# Altium schematic symbol library IC Driver.SchLib: 20 symbols
Pins are listed as number, name and electrical type; pins without a type are passive.

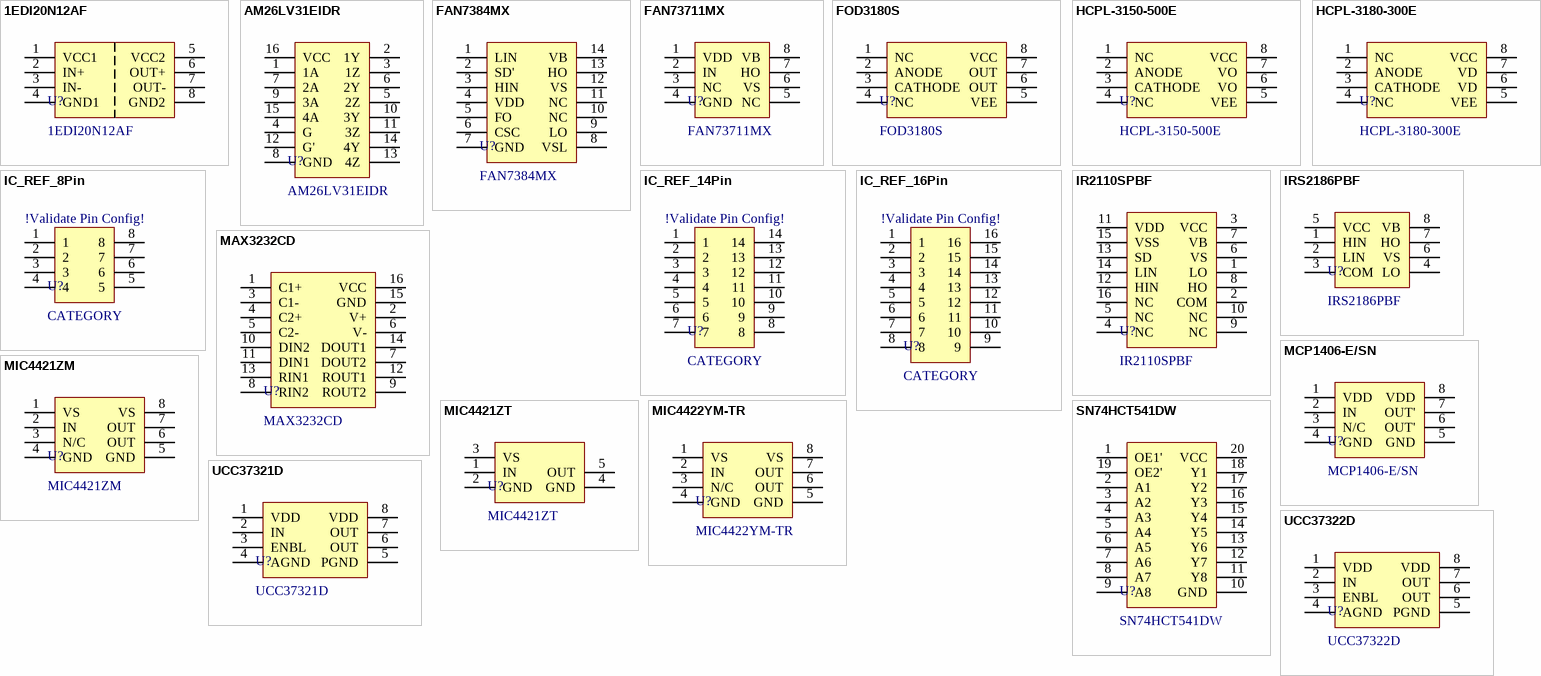
[diagram p0: symbols 1EDI20N12AF to UCC37322D]

## 1EDI20N12AF
designator U?
Isolate FET Driver, single channel, differential input, dual output; Manufacturer: Infineon; Distributor: Mouser; DistributorReference: 726-1EDI20N12AF; InventoryNumber: *; PackageReference: 8-SOIC; ManufacturerReference: 1EDI20N12AF
footprint SOIC-8 INFINEON (PG-DSO-8-51) (SOIC, 8-Leads, Body 4.90x3.90mm, Pitch 1.27mm, IPC High Density)
pins: 1 VCC1, 2 IN+, 3 IN-, 4 GND1, 5 VCC2, 6 OUT+, 7 OUT-, 8 GND2

## AM26LV31EIDR
designator U?
4/0 Driver RS422, RS485 16-SOIC; Manufacturer: Texas Instruments; InventoryNumber: IC108; Distributor: Digikey; DistributorReference: 296-24690-1-ND; PackageReference: 16-SOIC-3.9mmWidth; ManufacturerReference: AM26LV31EIDR
footprint 16 SOIC Texas Instruments (SOIC, 16-Leads, Body 9.90x3.90mm, Pitch 1.27mm, IPC High Density)
pins: 1 1A, 2 1Y, 3 1Z, 4 G, 5 2Z, 6 2Y, 7 2A, 8 GND, 9 3A, 10 3Y, 11 3Z, 12 G', 13 4Z, 14 4Y, 15 4A, 16 VCC

## FAN7384MX
designator U?
Half-Bridge Gate Driver IC Non-Inverting 14-SOIC; Manufacturer: ON Semiconductor; InventoryNumber: IC103; Distributor: Digikey; DistributorReference: FAN7384MXCT-ND; PackageReference: 14-SOIC-3.9mmWidth; ManufacturerReference: FAN7384MX
footprint 14-SOIC ON Semiconductor (SOIC, 14-Leads, Body 8.56x3.98mm, Pitch 1.27mm, IPC High Density)
pins: 1 LIN, 2 SD', 3 HIN, 4 VDD, 5 FO, 6 CSC, 7 GND, 8 VSL, 9 LO, 10 NC, 11 NC, 12 VS, 13 HO, 14 VB

## FAN73711MX
designator U?
High-Side Gate Driver IC Non-Inverting 8-SOIC; Manufacturer: ON Semiconductor; InventoryNumber: IC114; Distributor: Digikey; DistributorReference: FAN73711MXCT-ND; PackageReference: 8SOIC-3.9mmWidth; ManufacturerReference: FAN73711MX
footprint 8-SOIC (SOIC, 8-Leads, Body 4.90x3.90mm, Pitch 1.27mm, IPC High Density)
pins: 1 VDD, 2 IN, 3 NC, 4 GND, 5 NC, 6 VS, 7 HO, 8 VB

## FOD3180S
designator U?
2.5A Gate Driver Optical Coupling 5000Vrms 1 Channel 8-SMD; Manufacturer: ON Semiconductor; InventoryNumber: IC115; Distributor: Digikey; DistributorReference: FOD3180S-ND; PackageReference: 8-SMD, Gull Wing-6.6mmWidth; ManufacturerReference: FOD3180S
footprint 8-SMD, Gull Wing-6.6mmWidth ON Semiconductor (6.6mmWidth ON Semiconductor)
pins: 1 NC, 2 ANODE, 3 CATHODE, 4 NC, 5 VEE, 6 OUT, 7 OUT, 8 VCC

## HCPL-3150-500E
designator U?
600mA Gate Driver Optical Coupling 3750Vrms 1 Channel 8-DIP Gull Wing; Manufacturer: Broadcom Limited; InventoryNumber: IC111; Distributor: Digikey; DistributorReference: 516-1584-1-ND; PackageReference: 8-DIP Gull Wing; ManufacturerReference: HCPL-3150-500E
footprint 8-SMD, Gull Wing-6.6mmWidth ON Semiconductor (6.6mmWidth ON Semiconductor)
pins: 1 NC, 2 ANODE, 3 CATHODE, 4 NC, 5 VEE, 6 VO, 7 VO, 8 VCC

## HCPL-3180-300E
designator U?
2.5A Gate Driver Optical Coupling 3750Vrms 1 Channel 8-DIP Gull Wing; Manufacturer: Broadcom Limited; InventoryNumber: IC112; Distributor: Digikey; DistributorReference: 516-1675-5-ND; PackageReference: 8-DIP Gull Wing-6.6mmWidth; ManufacturerReference: HCPL-3180-300E
footprint 8-SMD, Gull Wing-6.6mmWidth ON Semiconductor (6.6mmWidth ON Semiconductor)
pins: 1 NC, 2 ANODE, 3 CATHODE, 4 NC, 5 VEE, 6 VD, 7 VD, 8 VCC

## IC_REF_8Pin
designator U?, comment CATEGORY
Distributor: Digikey; DistributorReference: *; InventoryNumber: *; PackageReference: *; ManufacturerReference: *; Manufacturer: *
pins: 1, 2, 3, 4, 5, 6, 7, 8
text: !Validate Pin Config!

## IC_REF_14Pin
designator U?, comment CATEGORY
Distributor: Digikey; DistributorReference: *; InventoryNumber: *; PackageReference: *; ManufacturerReference: *; Manufacturer: *
pins: 1, 2, 3, 4, 5, 6, 7, 8, 9, 10, 11, 12, 13, 14
text: !Validate Pin Config!

## IC_REF_16Pin
designator U?, comment CATEGORY
Distributor: Digikey; DistributorReference: *; InventoryNumber: *; PackageReference: *; ManufacturerReference: *; Manufacturer: *
pins: 1, 2, 3, 4, 5, 6, 7, 8, 9, 10, 11, 12, 13, 14, 15, 16
text: !Validate Pin Config!

## IR2110SPBF
designator U?
Half-Bridge Gate Driver IC Non-Inverting 16-SOIC; Manufacturer: Infineon Technologies; InventoryNumber: IC109; Distributor: Digikey; DistributorReference: IR2110SPBF-ND; PackageReference: 16-SOIC-7.5mmWidth; ManufacturerReference: IR2110SPBF
footprint 16SOIC-7.5mmWidth Infineon Technologies (SOIC, 16-Leads, Body 10.30x7.50mm, Pitch 1.27mm, IPC High Density)
pins: 1 LO, 2 COM, 3 VCC, 4 NC, 5 NC, 6 VS, 7 VB, 8 HO, 9 NC, 10 NC, 11 VDD, 12 HIN, 13 SD, 14 LIN, 15 VSS, 16 NC

## IRS2186PBF
designator U?
Half-Bridge Gate Driver IC Non-Inverting 8-DIP; Manufacturer: Infineon Technologies; InventoryNumber: IC113; Distributor: Digikey; DistributorReference: IRS2186PBF-ND; PackageReference: 8DIP-7.62mmWidth; ManufacturerReference: IRS2186PBF
footprint 8-DIP-7.62mmWidth Infineon Technologies (7.62mmWidth Infineon Technologies)
pins: 1 HIN, 2 LIN, 3 COM, 4 LO, 5 VCC, 6 VS, 7 HO, 8 VB

## MAX3232CD
designator U?
2/2 Transceiver Full RS232 16-SOIC; Manufacturer: Texas Instruments; InventoryNumber: IC116; Distributor: Digikey; DistributorReference: 296-23110-5-ND; PackageReference: 16SOIC-3.9mmWidth; ManufacturerReference: MAX3232CD
footprint 16 SOIC Texas Instruments (SOIC, 16-Leads, Body 9.90x3.90mm, Pitch 1.27mm, IPC High Density)
pins: 1 C1+, 2 V+, 3 C1-, 4 C2+, 5 C2-, 6 V-, 7 DOUT2, 8 RIN2, 9 ROUT2, 10 DIN2, 11 DIN1, 12 ROUT1, 13 RIN1, 14 DOUT1, 15 GND, 16 VCC

## MCP1406-E/SN
designator U?
Low-Side Gate Driver IC Inverting 8-SOIC; Manufacturer: Microchip Technology; InventoryNumber: IC102; Distributor: Digikey; DistributorReference: MCP1406-E/SN-ND; PackageReference: 8SOIC-3.9mmWidth; ManufacturerReference: MCP1406-E/SN
footprint 8-SOIC (SOIC, 8-Leads, Body 4.90x3.90mm, Pitch 1.27mm, IPC High Density)
pins: 1 VDD, 2 IN, 3 N/C, 4 GND, 5 GND, 6 OUT', 7 OUT', 8 VDD

## MIC4421ZM
designator U?
Low-Side Gate Driver IC Inverting 8-SOIC; Manufacturer: Microchip Technology; InventoryNumber: IC104; Distributor: Digikey; DistributorReference: 576-1792-5-ND; PackageReference: 8SOIC-3.9mmWidth; ManufacturerReference: MIC4421ZM
footprint 8-SOIC (SOIC, 8-Leads, Body 4.90x3.90mm, Pitch 1.27mm, IPC High Density)
pins: 1 VS, 2 IN, 3 N/C, 4 GND, 5 GND, 6 OUT, 7 OUT, 8 VS

## MIC4421ZT
designator U?
Low-Side Gate Driver IC Inverting TO-220-5; Manufacturer: Microchip Technology; InventoryNumber: IC105; Distributor: Digikey; DistributorReference: 576-1521-5-ND; PackageReference: TO220-5; ManufacturerReference: MIC4421ZT
footprint TO220-5 Texas Instruments
pins: 1 IN, 2 GND, 3 VS, 4 GND, 5 OUT

## MIC4422YM-TR
designator U?
Low-Side Gate Driver IC Non-Inverting 8-SOIC; Manufacturer: Microchip Technology; InventoryNumber: IC101; Distributor: Digikey; DistributorReference: 576-1194-2-ND; PackageReference: 8SOIC-3.9mmWidth; ManufacturerReference: MIC4422YM-TR
footprint 8-SOIC (SOIC, 8-Leads, Body 4.90x3.90mm, Pitch 1.27mm, IPC High Density)
pins: 1 VS, 2 IN, 3 N/C, 4 GND, 5 GND, 6 OUT, 7 OUT, 8 VS

## SN74HCT541DW
designator U?
Buffer, Non-Inverting 1 Element 8 Bit per Element Push-Pull Output 20-SOIC; Manufacturer: Texas Instruments; InventoryNumber: IC110; Distributor: Digikey; DistributorReference: 296-1618-5-ND; PackageReference: 20SOIC-7.5mmWidth; ManufacturerReference: SN74HCT541DW
footprint 20-SOIC Texas Instruments (SOIC, 20-Leads, Body 12.80x7.50mm, Pitch 1.27mm, IPC High Density)
pins: 1 OE1', 2 A1, 3 A2, 4 A3, 5 A4, 6 A5, 7 A6, 8 A7, 9 A8, 10 GND, 11 Y8, 12 Y7, 13 Y6, 14 Y5, 15 Y4, 16 Y3, 17 Y2, 18 Y1, 19 OE2', 20 VCC

## UCC37321D
designator U?
Low-Side Gate Driver IC Inverting 8-SOIC; Manufacturer: Texas Instruments; InventoryNumber: IC107; Distributor: Digikey; DistributorReference: 296-13684-5-ND; PackageReference: 8SOIC-3.9mmWidth; ManufacturerReference: UCC37321D
footprint 8-SOIC (SOIC, 8-Leads, Body 4.90x3.90mm, Pitch 1.27mm, IPC High Density)
pins: 1 VDD, 2 IN, 3 ENBL, 4 AGND, 5 PGND, 6 OUT, 7 OUT, 8 VDD

## UCC37322D
designator U?
Low-Side Gate Driver IC Non-Inverting 8-SOIC; Manufacturer: Texas Instruments; InventoryNumber: IC106; Distributor: Digikey; DistributorReference: 296-13687-5-ND; PackageReference: 8SOIC-3.9mmWidth; ManufacturerReference: UCC37322D
footprint 8-SOIC (SOIC, 8-Leads, Body 4.90x3.90mm, Pitch 1.27mm, IPC High Density)
pins: 1 VDD, 2 IN, 3 ENBL, 4 AGND, 5 PGND, 6 OUT, 7 OUT, 8 VDD